# Altium schematic symbol library Electro-Mechanical.SchLib: 24 symbols (part 1 of 2)
Pins are listed as number, name and electrical type; pins without a type are passive.

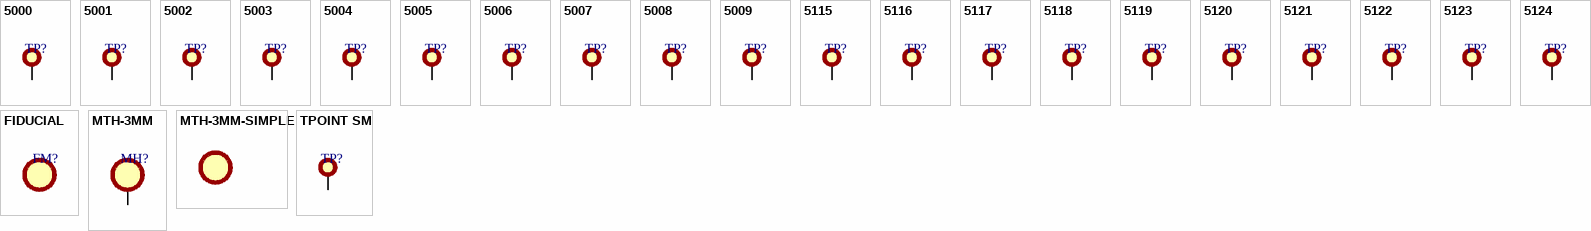
[diagram p0: symbols 5000 to TPOINT SM]

## 5000
designator TP?, comment RED TEST POINT  (value not drawn)
PC TEST POINT MINIATURE RED; Manufacturer: Keystone; Manufacturer Part Number: 5000; Description: Cable Wrap, 1/2 Inch, Polyethylene, Natural, 50 Ft, Spirap Series | TE Connectivity 500002-1; Body Material: Bronze, PBT; Hole Diameter: 1.6mm; Inside Diameter: 1.27mm; Insulation: Insulated; Number of Contacts: 1; Outside Diameter: 2.54mm; Plating: Silver; Supplier: DigiKey; Supplier Part Number: 36-5000-ND; RoHS: Compliant; Category: Test Points; Stock: 235174; Pricing: 1=0.39, 10=0.293, 25=0.2624, 100=0.2223, 500=0.19, 2500=0.16, 5000=0.14312 (USD); Color: Red; Contact Material: Silver; Contact Plating: Silver; Flammability Rating: UL94 V-0; Height: 4.72mm; Housing Color: Red; Lead Free: Lead Free; Length: 7.62mm; Lifecycle Status: Production; Material: Bronze, Nylon, Silver; Mounting Technology: PCB, Through Hole; Number of Ports: 1; Orientation: Straight; Packaging: Bulk; REACH SVHC: Yes; ComponentLink1URL: https://datasheet.octopart.com:443/5000-Keystone-datasheet-138896739.pdf?src-supplier=Upverter; ComponentLink1Description: https://datasheet.octopart.com:443/5000-Keystone-datasheet-138896739.pdf?src-supplier=Upverter; ComponentLink2URL: https://datasheet.octopart.com:443/5000-Keystone-datasheet-15716159.pdf?src-supplier=IHS; ComponentLink2Description: https://datasheet.octopart.com:443/5000-Keystone-datasheet-15716159.pdf?src-supplier=IHS; ComponentLink3URL: https://datasheet.octopart.com:443/5000-Keystone-datasheet-9590016.pdf?src-supplier=Sager+Electronics; ComponentLink3Description: https://datasheet.octopart.com:443/5000-Keystone-datasheet-9590016.pdf?src-supplier=Sager+Electronics; ComponentLink4URL: https://datasheet.octopart.com:443/5000-Keystone-datasheet-23674.pdf?src-supplier=SOS+electronic; ComponentLink4Description: https://datasheet.octopart.com:443/5000-Keystone-datasheet-23674.pdf?src-supplier=SOS+electronic; ComponentLink5URL: https://datasheet.octopart.com:443/5000-Keystone-datasheet-549598.pdf?src-supplier=Farnell; ComponentLink5Description: https://datasheet.octopart.com:443/5000-Keystone-datasheet-549598.pdf?src-supplier=Farnell; ComponentLink6URL: https://datasheet.octopart.com:443/5000-Keystone-datasheet-60278094.pdf?src-supplier=Future+Electronics; ComponentLink6Description: https://datasheet.octopart.com:443/5000-Keystone-datasheet-60278094.pdf?src-supplier=Future+Electronics; ComponentLink7URL: https://datasheet.octopart.com:443/5000-Keystone-datasheet-542585.pdf?src-supplier=Future+Electronics; ComponentLink7Description: https://datasheet.octopart.com:443/5000-Keystone-datasheet-542585.pdf?src-supplier=Future+Electronics; ComponentLink8URL: https://datasheet.octopart.com:443/5000-Keystone-datasheet-10925273.pdf?src-supplier=Factory+Futures; ComponentLink8Description: https://datasheet.octopart.com:443/5000-Keystone-datasheet-10925273.pdf?src-supplier=Factory+Futures; ComponentLink9URL: https://datasheet.octopart.com:443/5000-Keystone-datasheet-15983577.pdf?src-supplier=element14+APAC; ComponentLink9Description: https://datasheet.octopart.com:443/5000-Keystone-datasheet-15983577.pdf?src-supplier=element14+APAC; ComponentLink10URL: https://datasheet.octopart.com:443/5000-Keystone-datasheet-6528.pdf?src-supplier=RS+(Formerly+Allied+Electronics); ComponentLink10Description: https://datasheet.octopart.com:443/5000-Keystone-datasheet-6528.pdf?src-supplier=RS+(Formerly+Allied+Electronics)
footprint TEST_POINT_TH_2P54X4P57MM_RED
pins: 1 TP

## 5001
designator TP?, comment BLACK TEST POINT  (value not drawn)
PC TEST POINT MINIATURE BLACK; Manufacturer: Keystone; Manufacturer Part Number: 5001; Description: Test Point, Mini, Thm, Pc, .300 L, .100 Od, Heat Resistant Nylon 46, Black; Body Material: Bronze, PBT; Hole Diameter: 1.6mm; Inside Diameter: 1.27mm; Insulation: Insulated; Number of Contacts: 1; Outside Diameter: 2.54mm; Plating: Silver; Supplier: DigiKey; Supplier Part Number: 36-5001-ND; RoHS: Compliant; Category: Test Points; Stock: 457736; Pricing: 1=0.26, 10=0.194, 25=0.19, 2500=0.16, 5000=0.14 (USD); China RoHS: Compliant; Color: Black; Contact Material: Silver; Contact Plating: Tin; Diameter: 2.54mm; Flammability Rating: UL94 V-0; Height: 4.72mm; Housing Color: Black; Lead Free: Lead Free; Length: 7.62mm; Lifecycle Status: Production; Material: Bronze, Nylon, Silver; Mounting Technology: PCB, Through Hole; Pins: 1; Number of Ports: 1; Orientation: Straight; Packaging: Bulk; REACH SVHC: Yes; Termination: Through Hole; ComponentLink1URL: https://datasheet.octopart.com:443/5001-Keystone-datasheet-15716159.pdf?src-supplier=IHS; ComponentLink1Description: https://datasheet.octopart.com:443/5001-Keystone-datasheet-15716159.pdf?src-supplier=IHS; ComponentLink2URL: https://datasheet.octopart.com:443/5001-Keystone-datasheet-23674.pdf?src-supplier=Upverter; ComponentLink2Description: https://datasheet.octopart.com:443/5001-Keystone-datasheet-23674.pdf?src-supplier=Upverter; ComponentLink3URL: https://datasheet.octopart.com:443/5001-Keystone-datasheet-60278094.pdf?src-supplier=LKR; ComponentLink3Description: https://datasheet.octopart.com:443/5001-Keystone-datasheet-60278094.pdf?src-supplier=LKR; ComponentLink4URL: https://datasheet.octopart.com:443/5001-Keystone-datasheet-9590016.pdf?src-supplier=Sager+Electronics; ComponentLink4Description: https://datasheet.octopart.com:443/5001-Keystone-datasheet-9590016.pdf?src-supplier=Sager+Electronics; ComponentLink5URL: https://datasheet.octopart.com:443/5001-Keystone-datasheet-15983577.pdf?src-supplier=element14+APAC; ComponentLink5Description: https://datasheet.octopart.com:443/5001-Keystone-datasheet-15983577.pdf?src-supplier=element14+APAC; ComponentLink6URL: https://datasheet.octopart.com:443/5001-Keystone-datasheet-10925273.pdf?src-supplier=RS+(Formerly+Allied+Electronics); ComponentLink6Description: https://datasheet.octopart.com:443/5001-Keystone-datasheet-10925273.pdf?src-supplier=RS+(Formerly+Allied+Electronics); ComponentLink7URL: https://datasheet.octopart.com:443/5001-Keystone-datasheet-6528.pdf?src-supplier=RS+(Formerly+Allied+Electronics); ComponentLink7Description: https://datasheet.octopart.com:443/5001-Keystone-datasheet-6528.pdf?src-supplier=RS+(Formerly+Allied+Electronics); ComponentLink8URL: https://datasheet.octopart.com:443/5001-Keystone-datasheet-14433321.pdf?src-supplier=Factory+Futures; ComponentLink8Description: https://datasheet.octopart.com:443/5001-Keystone-datasheet-14433321.pdf?src-supplier=Factory+Futures; ComponentLink9URL: https://datasheet.octopart.com:443/5001-Keystone-datasheet-549598.pdf?src-supplier=Future+Electronics; ComponentLink9Description: https://datasheet.octopart.com:443/5001-Keystone-datasheet-549598.pdf?src-supplier=Future+Electronics; ComponentLink10URL: https://datasheet.octopart.com:443/5001-Keystone-datasheet-542585.pdf?src-supplier=Future+Electronics; ComponentLink10Description: https://datasheet.octopart.com:443/5001-Keystone-datasheet-542585.pdf?src-supplier=Future+Electronics; ComponentLink11URL: https://datasheet.octopart.com:443/5001-Keystone-datasheet-7268890.pdf?src-supplier=Jameco; ComponentLink11Description: https://datasheet.octopart.com:443/5001-Keystone-datasheet-7268890.pdf?src-supplier=Jameco
footprint TEST_POINT_TH_2P54X4P57MM_BLACK
pins: 1 TP

## 5002
designator TP?, comment WHITE TEST POINT  (value not drawn)
PC TEST POINT MINIATURE WHITE; Manufacturer: Keystone; Manufacturer Part Number: 5002; Description: Test Point, Mini, Thm, Pc, .300 L, .100 Od, Heat Resistant Nylon 46, White; Body Material: Bronze, PBT; Hole Diameter: 1.6mm; Inside Diameter: 1.27mm; Insulation: Insulated; Number of Ports: 1; Outside Diameter: 2.54mm; Plating: Silver; Supplier: DigiKey; Supplier Part Number: 36-5002-ND; RoHS: Compliant; Category: Test Points; Stock: 426813; Pricing: 1=0.39, 10=0.293, 25=0.2624, 100=0.2223, 500=0.19, 2500=0.16, 5000=0.14312 (USD); China RoHS: Compliant; Color: White; Contact Material: Silver; Contact Plating: Tin; Flammability Rating: UL94 V-0; Height: 4.57mm; Housing Color: White; Lead Free: Lead Free; Length: 7.62mm; Lifecycle Status: Production; Material: Bronze, Nylon, Silver; Mounting Technology: PCB, Through Hole; Orientation: Straight; Packaging: Bulk; REACH SVHC: Yes; ComponentLink1URL: https://datasheet.octopart.com:443/5002-Keystone-datasheet-138896739.pdf?src-supplier=Upverter; ComponentLink1Description: https://datasheet.octopart.com:443/5002-Keystone-datasheet-138896739.pdf?src-supplier=Upverter; ComponentLink2URL: https://datasheet.octopart.com:443/5002-Keystone-datasheet-15716159.pdf?src-supplier=IHS; ComponentLink2Description: https://datasheet.octopart.com:443/5002-Keystone-datasheet-15716159.pdf?src-supplier=IHS; ComponentLink3URL: https://datasheet.octopart.com:443/5002-Keystone-datasheet-23674.pdf?src-supplier=element14; ComponentLink3Description: https://datasheet.octopart.com:443/5002-Keystone-datasheet-23674.pdf?src-supplier=element14; ComponentLink4URL: https://datasheet.octopart.com:443/5002-Keystone-datasheet-60278094.pdf?src-supplier=LKR; ComponentLink4Description: https://datasheet.octopart.com:443/5002-Keystone-datasheet-60278094.pdf?src-supplier=LKR; ComponentLink5URL: https://datasheet.octopart.com:443/5002-Keystone-datasheet-9590016.pdf?src-supplier=Sager+Electronics; ComponentLink5Description: https://datasheet.octopart.com:443/5002-Keystone-datasheet-9590016.pdf?src-supplier=Sager+Electronics; ComponentLink6URL: https://datasheet.octopart.com:443/5002-Keystone-datasheet-10925273.pdf?src-supplier=RS+(Formerly+Allied+Electronics); ComponentLink6Description: https://datasheet.octopart.com:443/5002-Keystone-datasheet-10925273.pdf?src-supplier=RS+(Formerly+Allied+Electronics); ComponentLink7URL: https://datasheet.octopart.com:443/5002-Keystone-datasheet-6528.pdf?src-supplier=RS+(Formerly+Allied+Electronics); ComponentLink7Description: https://datasheet.octopart.com:443/5002-Keystone-datasheet-6528.pdf?src-supplier=RS+(Formerly+Allied+Electronics); ComponentLink8URL: https://datasheet.octopart.com:443/5002-Keystone-datasheet-15983577.pdf?src-supplier=element14+APAC; ComponentLink8Description: https://datasheet.octopart.com:443/5002-Keystone-datasheet-15983577.pdf?src-supplier=element14+APAC; ComponentLink9URL: https://datasheet.octopart.com:443/5002-Keystone-datasheet-549598.pdf?src-supplier=Future+Electronics; ComponentLink9Description: https://datasheet.octopart.com:443/5002-Keystone-datasheet-549598.pdf?src-supplier=Future+Electronics; ComponentLink10URL: https://datasheet.octopart.com:443/5002-Keystone-datasheet-542585.pdf?src-supplier=Future+Electronics; ComponentLink10Description: https://datasheet.octopart.com:443/5002-Keystone-datasheet-542585.pdf?src-supplier=Future+Electronics; ComponentLink11URL: https://datasheet.octopart.com:443/5002-Keystone-datasheet-7266429.pdf?src-supplier=Jameco; ComponentLink11Description: https://datasheet.octopart.com:443/5002-Keystone-datasheet-7266429.pdf?src-supplier=Jameco
footprint TEST_POINT_TH_2P54X4P57MM_WHITE
pins: 1 TP

## 5003
designator TP?, comment ORANGE TEST POINT  (value not drawn)
PC TEST POINT MINIATURE ORANGE; Manufacturer: Keystone; Manufacturer Part Number: 5003; Description: KEYSTONE - 5003 - PCB Test Point, Miniature, Orange, Through Hole Mount, 1 mm, Phosphor Bronze; Body Material: PBT; Forward Current: 3A; Forward Voltage: 1.08V; Inside Diameter: 1.27mm; Outside Diameter: 2.54mm; Plating: Silver; Supplier: DigiKey; Supplier Part Number: 36-5003-ND; RoHS: Compliant; Category: Test Points; Stock: 71569; Pricing: 1=0.39, 10=0.293, 25=0.2624, 100=0.2223, 500=0.19, 2500=0.16, 5000=0.14312 (USD); Color: Orange; Contact Material: Silver; Contact Plating: Silver; Diameter: 5.3mm; Flammability Rating: UL94 V-0; Height: 4.72mm; Lead Free: Lead Free; Length: 9.5mm; Lifecycle Status: Production; Material: Bronze, Nylon, Silver; Mounting Technology: Through Hole; Pins: 1; Packaging: Bulk; Radiation Hardening: No; REACH SVHC: Yes; Termination: Through Hole; Weight: 4.535924g; Width: 6.35mm; ComponentLink1URL: https://datasheet.octopart.com:443/5003-Keystone-datasheet-15716159.pdf?src-supplier=IHS; ComponentLink1Description: https://datasheet.octopart.com:443/5003-Keystone-datasheet-15716159.pdf?src-supplier=IHS; ComponentLink2URL: https://datasheet.octopart.com:443/5003-Keystone-datasheet-23674.pdf?src-supplier=element14; ComponentLink2Description: https://datasheet.octopart.com:443/5003-Keystone-datasheet-23674.pdf?src-supplier=element14; ComponentLink3URL: https://datasheet.octopart.com:443/5003-Keystone-datasheet-60278094.pdf?src-supplier=LKR; ComponentLink3Description: https://datasheet.octopart.com:443/5003-Keystone-datasheet-60278094.pdf?src-supplier=LKR; ComponentLink4URL: https://datasheet.octopart.com:443/5003-Keystone-datasheet-9590016.pdf?src-supplier=Sager+Electronics; ComponentLink4Description: https://datasheet.octopart.com:443/5003-Keystone-datasheet-9590016.pdf?src-supplier=Sager+Electronics; ComponentLink5URL: https://datasheet.octopart.com:443/5003-Keystone-datasheet-10925273.pdf?src-supplier=RS+(Formerly+Allied+Electronics); ComponentLink5Description: https://datasheet.octopart.com:443/5003-Keystone-datasheet-10925273.pdf?src-supplier=RS+(Formerly+Allied+Electronics); ComponentLink6URL: https://datasheet.octopart.com:443/5003-Keystone-datasheet-6528.pdf?src-supplier=RS+(Formerly+Allied+Electronics); ComponentLink6Description: https://datasheet.octopart.com:443/5003-Keystone-datasheet-6528.pdf?src-supplier=RS+(Formerly+Allied+Electronics); ComponentLink7URL: https://datasheet.octopart.com:443/5003-Keystone-datasheet-151955057.pdf?src-supplier=SOS+electronic; ComponentLink7Description: https://datasheet.octopart.com:443/5003-Keystone-datasheet-151955057.pdf?src-supplier=SOS+electronic; ComponentLink8URL: https://datasheet.octopart.com:443/5003-Keystone-datasheet-549598.pdf?src-supplier=Future+Electronics; ComponentLink8Description: https://datasheet.octopart.com:443/5003-Keystone-datasheet-549598.pdf?src-supplier=Future+Electronics; ComponentLink9URL: https://datasheet.octopart.com:443/5003-Keystone-datasheet-542585.pdf?src-supplier=Future+Electronics; ComponentLink9Description: https://datasheet.octopart.com:443/5003-Keystone-datasheet-542585.pdf?src-supplier=Future+Electronics
footprint TEST_POINT_TH_2P54X4P57MM_ORANGE
pins: 1 TP

## 5004
designator TP?, comment ORANGE TEST POINT  (value not drawn)
PC TEST POINT MINIATURE YELLOW; Manufacturer: Keystone; Manufacturer Part Number: 5004; Description: KEYSTONE - 5004 - PCB Test Point, Miniature, Yellow, Through Hole Mount, 1 mm, Phosphor Bronze; Body Material: PBT; Inside Diameter: 1.27mm; Number of Contacts: 1; Outside Diameter: 2.54mm; Plating: Silver; Supplier: DigiKey; Supplier Part Number: 36-5004-ND; RoHS: Compliant; Category: Test Points; Stock: 116330; Pricing: 1=0.39, 10=0.293, 25=0.2624, 100=0.2223, 500=0.19, 2500=0.16, 5000=0.14312 (USD); Color: Yellow; Contact Material: Silver; Contact Plating: Silver; Flammability Rating: UL94 V-0; Height: 4.72mm; Housing Color: Yellow; Lead Free: Lead Free; Length: 7.62mm; Lifecycle Status: Production; Material: Bronze, Nylon, Silver; Mounting Technology: PCB, Through Hole; Number of Ports: 1; Orientation: Straight; Packaging: Bulk; REACH SVHC: Yes; ComponentLink1URL: https://datasheet.octopart.com:443/5004-Keystone-datasheet-138896739.pdf?src-supplier=Sager+Electronics; ComponentLink1Description: https://datasheet.octopart.com:443/5004-Keystone-datasheet-138896739.pdf?src-supplier=Sager+Electronics; ComponentLink2URL: https://datasheet.octopart.com:443/5004-Keystone-datasheet-9590016.pdf?src-supplier=Sager+Electronics; ComponentLink2Description: https://datasheet.octopart.com:443/5004-Keystone-datasheet-9590016.pdf?src-supplier=Sager+Electronics; ComponentLink3URL: https://datasheet.octopart.com:443/5004-Keystone-datasheet-15716159.pdf?src-supplier=IHS; ComponentLink3Description: https://datasheet.octopart.com:443/5004-Keystone-datasheet-15716159.pdf?src-supplier=IHS; ComponentLink4URL: https://datasheet.octopart.com:443/5004-Keystone-datasheet-23674.pdf?src-supplier=element14; ComponentLink4Description: https://datasheet.octopart.com:443/5004-Keystone-datasheet-23674.pdf?src-supplier=element14; ComponentLink5URL: https://datasheet.octopart.com:443/5004-Keystone-datasheet-60278094.pdf?src-supplier=Future+Electronics; ComponentLink5Description: https://datasheet.octopart.com:443/5004-Keystone-datasheet-60278094.pdf?src-supplier=Future+Electronics; ComponentLink6URL: https://datasheet.octopart.com:443/5004-Keystone-datasheet-549598.pdf?src-supplier=Future+Electronics; ComponentLink6Description: https://datasheet.octopart.com:443/5004-Keystone-datasheet-549598.pdf?src-supplier=Future+Electronics; ComponentLink7URL: https://datasheet.octopart.com:443/5004-Keystone-datasheet-542585.pdf?src-supplier=Future+Electronics; ComponentLink7Description: https://datasheet.octopart.com:443/5004-Keystone-datasheet-542585.pdf?src-supplier=Future+Electronics; ComponentLink8URL: https://datasheet.octopart.com:443/5004-Keystone-datasheet-10925273.pdf?src-supplier=RS+(Formerly+Allied+Electronics); ComponentLink8Description: https://datasheet.octopart.com:443/5004-Keystone-datasheet-10925273.pdf?src-supplier=RS+(Formerly+Allied+Electronics); ComponentLink9URL: https://datasheet.octopart.com:443/5004-Keystone-datasheet-6528.pdf?src-supplier=RS+(Formerly+Allied+Electronics); ComponentLink9Description: https://datasheet.octopart.com:443/5004-Keystone-datasheet-6528.pdf?src-supplier=RS+(Formerly+Allied+Electronics); ComponentLink10URL: https://datasheet.octopart.com:443/5004-Keystone-datasheet-7273119.pdf?src-supplier=Jameco; ComponentLink10Description: https://datasheet.octopart.com:443/5004-Keystone-datasheet-7273119.pdf?src-supplier=Jameco
footprint TEST_POINT_TH_2P54X4P57MM_YELLOW
pins: 1 TP

## 5005
designator TP?, comment RED TEST POINT  (value not drawn)
PC TEST POINT COMPACT RED; Manufacturer: Keystone; Manufacturer Part Number: 5005; Description: PCB Test Point Red 1/8" Diameter x 0.22"L Silver Plated Nylon Insulated; Body Material: PBT; Hole Diameter: 1.6mm; Inside Diameter: 1.78mm; Number of Contacts: 1; Outside Diameter: 3.18mm; Plating: Silver; Supplier: DigiKey; Supplier Part Number: 36-5005-ND; RoHS: Compliant; Category: Test Points; Stock: 106705; Pricing: 1=0.39, 10=0.293, 25=0.2624, 100=0.2223, 500=0.19, 2500=0.16, 5000=0.14312 (USD); Color: Red; Contact Material: Silver; Contact Plating: Tin; Flammability Rating: UL94 V-0; Height: 5.74mm; Housing Color: Red; Lead Free: Lead Free; Length: 8.89mm; Lifecycle Status: Production; Material: Bronze, Nylon, Silver; Mounting Technology: PCB, Through Hole; Number of Ports: 1; Orientation: Straight; Packaging: Bulk; REACH SVHC: Yes; Termination: Solder; ComponentLink1URL: https://datasheet.octopart.com:443/5005-Keystone-datasheet-138896740.pdf?src-supplier=Sager+Electronics; ComponentLink1Description: https://datasheet.octopart.com:443/5005-Keystone-datasheet-138896740.pdf?src-supplier=Sager+Electronics; ComponentLink2URL: https://datasheet.octopart.com:443/5005-Keystone-datasheet-9590016.pdf?src-supplier=Sager+Electronics; ComponentLink2Description: https://datasheet.octopart.com:443/5005-Keystone-datasheet-9590016.pdf?src-supplier=Sager+Electronics; ComponentLink3URL: https://datasheet.octopart.com:443/5005-Keystone-datasheet-15716159.pdf?src-supplier=IHS; ComponentLink3Description: https://datasheet.octopart.com:443/5005-Keystone-datasheet-15716159.pdf?src-supplier=IHS; ComponentLink4URL: https://datasheet.octopart.com:443/5005-Keystone-datasheet-23674.pdf?src-supplier=element14; ComponentLink4Description: https://datasheet.octopart.com:443/5005-Keystone-datasheet-23674.pdf?src-supplier=element14; ComponentLink5URL: https://datasheet.octopart.com:443/5005-Keystone-datasheet-60278094.pdf?src-supplier=Future+Electronics; ComponentLink5Description: https://datasheet.octopart.com:443/5005-Keystone-datasheet-60278094.pdf?src-supplier=Future+Electronics; ComponentLink6URL: https://datasheet.octopart.com:443/5005-Keystone-datasheet-549598.pdf?src-supplier=Future+Electronics; ComponentLink6Description: https://datasheet.octopart.com:443/5005-Keystone-datasheet-549598.pdf?src-supplier=Future+Electronics; ComponentLink7URL: https://datasheet.octopart.com:443/5005-Keystone-datasheet-527775.pdf?src-supplier=Future+Electronics; ComponentLink7Description: https://datasheet.octopart.com:443/5005-Keystone-datasheet-527775.pdf?src-supplier=Future+Electronics; ComponentLink8URL: https://datasheet.octopart.com:443/5005-Keystone-datasheet-10925273.pdf?src-supplier=RS+(Formerly+Allied+Electronics); ComponentLink8Description: https://datasheet.octopart.com:443/5005-Keystone-datasheet-10925273.pdf?src-supplier=RS+(Formerly+Allied+Electronics); ComponentLink9URL: https://datasheet.octopart.com:443/5005-Keystone-datasheet-6528.pdf?src-supplier=RS+(Formerly+Allied+Electronics); ComponentLink9Description: https://datasheet.octopart.com:443/5005-Keystone-datasheet-6528.pdf?src-supplier=RS+(Formerly+Allied+Electronics)
footprint TEST_POINT_TH_3P18X5P59MM_RED
pins: 1 TP

## 5006
designator TP?, comment BLACK TEST POIN  (value not drawn)
PC TEST POINT COMPACT BLACK; Manufacturer: Keystone; Manufacturer Part Number: 5006; Description: PCB Test Point Black 1/8" Diameter x 0.22"L Silver Plated Nylon Insulated; Body Material: PBT; Hole Diameter: 1.6mm; Inside Diameter: 1.78mm; Number of Contacts: 1; Outside Diameter: 3.18mm; Plating: Silver; Supplier: DigiKey; Supplier Part Number: 36-5006-ND; RoHS: Compliant; Category: Test Points; Stock: 209955; Pricing: 1=0.39, 10=0.293, 25=0.2624, 100=0.2223, 500=0.19, 2500=0.16, 5000=0.14312 (USD); Color: Black; Contact Material: Silver; Contact Plating: Tin; Flammability Rating: UL94 V-0; Height: 5.74mm; Housing Color: Black; Lead Free: Lead Free; Length: 8.89mm; Lifecycle Status: Production; Material: Bronze, Nylon, Silver; Mounting Technology: PCB, Through Hole; Number of Ports: 1; Orientation: Straight; Packaging: Bulk; REACH SVHC: Yes; ComponentLink1URL: https://datasheet.octopart.com:443/5006-Keystone-datasheet-15716159.pdf?src-supplier=IHS; ComponentLink1Description: https://datasheet.octopart.com:443/5006-Keystone-datasheet-15716159.pdf?src-supplier=IHS; ComponentLink2URL: https://datasheet.octopart.com:443/5006-Keystone-datasheet-23674.pdf?src-supplier=element14; ComponentLink2Description: https://datasheet.octopart.com:443/5006-Keystone-datasheet-23674.pdf?src-supplier=element14; ComponentLink3URL: https://datasheet.octopart.com:443/5006-Keystone-datasheet-15687730.pdf?src-supplier=Newark; ComponentLink3Description: https://datasheet.octopart.com:443/5006-Keystone-datasheet-15687730.pdf?src-supplier=Newark; ComponentLink4URL: https://datasheet.octopart.com:443/5006-Keystone-datasheet-9590016.pdf?src-supplier=Sager+Electronics; ComponentLink4Description: https://datasheet.octopart.com:443/5006-Keystone-datasheet-9590016.pdf?src-supplier=Sager+Electronics; ComponentLink5URL: https://datasheet.octopart.com:443/5006-Keystone-datasheet-60278094.pdf?src-supplier=Future+Electronics; ComponentLink5Description: https://datasheet.octopart.com:443/5006-Keystone-datasheet-60278094.pdf?src-supplier=Future+Electronics; ComponentLink6URL: https://datasheet.octopart.com:443/5006-Keystone-datasheet-549598.pdf?src-supplier=Future+Electronics; ComponentLink6Description: https://datasheet.octopart.com:443/5006-Keystone-datasheet-549598.pdf?src-supplier=Future+Electronics; ComponentLink7URL: https://datasheet.octopart.com:443/5006-Keystone-datasheet-527775.pdf?src-supplier=Future+Electronics; ComponentLink7Description: https://datasheet.octopart.com:443/5006-Keystone-datasheet-527775.pdf?src-supplier=Future+Electronics; ComponentLink8URL: https://datasheet.octopart.com:443/5006-Keystone-datasheet-10925273.pdf?src-supplier=Factory+Futures; ComponentLink8Description: https://datasheet.octopart.com:443/5006-Keystone-datasheet-10925273.pdf?src-supplier=Factory+Futures; ComponentLink9URL: https://datasheet.octopart.com:443/5006-Keystone-datasheet-15993228.pdf?src-supplier=Farnell; ComponentLink9Description: https://datasheet.octopart.com:443/5006-Keystone-datasheet-15993228.pdf?src-supplier=Farnell; ComponentLink10URL: https://datasheet.octopart.com:443/5006-Keystone-datasheet-7274295.pdf?src-supplier=Jameco; ComponentLink10Description: https://datasheet.octopart.com:443/5006-Keystone-datasheet-7274295.pdf?src-supplier=Jameco; ComponentLink11URL: https://datasheet.octopart.com:443/5006-Keystone-datasheet-6528.pdf?src-supplier=RS+(Formerly+Allied+Electronics); ComponentLink11Description: https://datasheet.octopart.com:443/5006-Keystone-datasheet-6528.pdf?src-supplier=RS+(Formerly+Allied+Electronics)
footprint TEST_POINT_TH_3P18X5P59MM_BLACK
pins: 1 TP

## 5007
designator TP?, comment WHITE TEST POINT  (value not drawn)
PC TEST POINT COMPACT WHITE; Manufacturer: Keystone; Manufacturer Part Number: 5007; Description: PCB Test Point White 1/8" Diameter x 0.22"L Silver Plated Nylon Insulated; Body Material: Bronze, PBT; Hole Diameter: 1.6mm; Inside Diameter: 1.78mm; Insulation: Insulated; Number of Contacts: 1; Outside Diameter: 3.18mm; Plating: Silver; Supplier: DigiKey; Supplier Part Number: 36-5007-ND; RoHS: Compliant; Category: Test Points; Stock: 78345; Pricing: 1=0.39, 10=0.293, 25=0.2624, 100=0.2223, 500=0.19, 2500=0.16, 5000=0.14312 (USD); Color: White; Contact Material: Bronze; Contact Plating: Tin; Flammability Rating: UL94 V-0; Height: 8.89mm; Housing Color: White; Lead Free: Lead Free; Length: 8.89mm; Lifecycle Status: Production; Material: Bronze, Nylon, Silver; Mounting Technology: PCB, Through Hole; Number of Ports: 1; Orientation: Straight; Packaging: Bulk; REACH SVHC: Yes; ComponentLink1URL: https://datasheet.octopart.com:443/5007-Keystone-datasheet-15716159.pdf?src-supplier=IHS; ComponentLink1Description: https://datasheet.octopart.com:443/5007-Keystone-datasheet-15716159.pdf?src-supplier=IHS; ComponentLink2URL: https://datasheet.octopart.com:443/5007-Keystone-datasheet-23674.pdf?src-supplier=element14; ComponentLink2Description: https://datasheet.octopart.com:443/5007-Keystone-datasheet-23674.pdf?src-supplier=element14; ComponentLink3URL: https://datasheet.octopart.com:443/5007-Keystone-datasheet-60278094.pdf?src-supplier=LKR; ComponentLink3Description: https://datasheet.octopart.com:443/5007-Keystone-datasheet-60278094.pdf?src-supplier=LKR; ComponentLink4URL: https://datasheet.octopart.com:443/5007-Keystone-datasheet-9590016.pdf?src-supplier=Sager+Electronics; ComponentLink4Description: https://datasheet.octopart.com:443/5007-Keystone-datasheet-9590016.pdf?src-supplier=Sager+Electronics; ComponentLink5URL: https://datasheet.octopart.com:443/5007-Keystone-datasheet-10925273.pdf?src-supplier=RS+(Formerly+Allied+Electronics); ComponentLink5Description: https://datasheet.octopart.com:443/5007-Keystone-datasheet-10925273.pdf?src-supplier=RS+(Formerly+Allied+Electronics); ComponentLink6URL: https://datasheet.octopart.com:443/5007-Keystone-datasheet-6528.pdf?src-supplier=RS+(Formerly+Allied+Electronics); ComponentLink6Description: https://datasheet.octopart.com:443/5007-Keystone-datasheet-6528.pdf?src-supplier=RS+(Formerly+Allied+Electronics); ComponentLink7URL: https://datasheet.octopart.com:443/5007-Keystone-datasheet-549598.pdf?src-supplier=Future+Electronics; ComponentLink7Description: https://datasheet.octopart.com:443/5007-Keystone-datasheet-549598.pdf?src-supplier=Future+Electronics; ComponentLink8URL: https://datasheet.octopart.com:443/5007-Keystone-datasheet-527775.pdf?src-supplier=Future+Electronics; ComponentLink8Description: https://datasheet.octopart.com:443/5007-Keystone-datasheet-527775.pdf?src-supplier=Future+Electronics
footprint TEST_POINT_TH_3P18X5P59MM_WHITE
pins: 1 TP

## 5008
designator TP?, comment ORANGE TEST POINT  (value not drawn)
PC TEST POINT COMPACT ORANGE; Manufacturer: Keystone; Manufacturer Part Number: 5008; Description: KEYSTONE - 5008 - PCB Test Point, Compact, Orange, Through Hole Mount, 1.6 mm, Phosphor Bronze; Body Material: PBT; Inside Diameter: 1.78mm; Number of Ports: 1; Outside Diameter: 3.18mm; Plating: Silver; Supplier: DigiKey; Supplier Part Number: 36-5008-ND; RoHS: Compliant; Category: Test Points; Stock: 46591; Pricing: 1=0.39, 10=0.293, 25=0.2624, 100=0.2223, 500=0.19, 2500=0.16, 5000=0.14312 (USD); Color: Orange; Contact Material: Bronze; Contact Plating: Tin; Flammability Rating: UL94 V-0; Height: 8.89mm; Housing Color: Orange; Lead Free: Lead Free; Length: 8.89mm; Lifecycle Status: Production; Material: Bronze, Nylon, Silver; Mounting Technology: PCB, Through Hole; Orientation: Straight; Packaging: Bulk; REACH SVHC: Yes; Termination: Through Hole; ComponentLink1URL: https://datasheet.octopart.com:443/5008-Keystone-datasheet-15716159.pdf?src-supplier=IHS; ComponentLink1Description: https://datasheet.octopart.com:443/5008-Keystone-datasheet-15716159.pdf?src-supplier=IHS; ComponentLink2URL: https://datasheet.octopart.com:443/5008-Keystone-datasheet-23674.pdf?src-supplier=element14; ComponentLink2Description: https://datasheet.octopart.com:443/5008-Keystone-datasheet-23674.pdf?src-supplier=element14; ComponentLink3URL: https://datasheet.octopart.com:443/5008-Keystone-datasheet-9590016.pdf?src-supplier=Sager+Electronics; ComponentLink3Description: https://datasheet.octopart.com:443/5008-Keystone-datasheet-9590016.pdf?src-supplier=Sager+Electronics; ComponentLink4URL: https://datasheet.octopart.com:443/5008-Keystone-datasheet-60278094.pdf?src-supplier=Future+Electronics; ComponentLink4Description: https://datasheet.octopart.com:443/5008-Keystone-datasheet-60278094.pdf?src-supplier=Future+Electronics; ComponentLink5URL: https://datasheet.octopart.com:443/5008-Keystone-datasheet-549598.pdf?src-supplier=Future+Electronics; ComponentLink5Description: https://datasheet.octopart.com:443/5008-Keystone-datasheet-549598.pdf?src-supplier=Future+Electronics; ComponentLink6URL: https://datasheet.octopart.com:443/5008-Keystone-datasheet-527775.pdf?src-supplier=Future+Electronics; ComponentLink6Description: https://datasheet.octopart.com:443/5008-Keystone-datasheet-527775.pdf?src-supplier=Future+Electronics; ComponentLink7URL: https://datasheet.octopart.com:443/5008-Keystone-datasheet-10925273.pdf?src-supplier=RS+(Formerly+Allied+Electronics); ComponentLink7Description: https://datasheet.octopart.com:443/5008-Keystone-datasheet-10925273.pdf?src-supplier=RS+(Formerly+Allied+Electronics); ComponentLink8URL: https://datasheet.octopart.com:443/5008-Keystone-datasheet-6528.pdf?src-supplier=RS+(Formerly+Allied+Electronics); ComponentLink8Description: https://datasheet.octopart.com:443/5008-Keystone-datasheet-6528.pdf?src-supplier=RS+(Formerly+Allied+Electronics)
footprint TEST_POINT_TH_3P18X5P59MM_ORANGE
pins: 1 TP

## 5009
designator TP?, comment YELLOW TEST POIN  (value not drawn)
PC TEST POINT COMPACT YELLOW; Manufacturer: Keystone; Manufacturer Part Number: 5009; Description: KEYSTONE - 5009 - PCB Test Point, Compact, Yellow, Through Hole Mount, 1.6 mm, Phosphor Bronze; Body Material: PBT; Inside Diameter: 1.78mm; Number of Ports: 1; Outside Diameter: 3.18mm; Plating: Silver; Supplier: DigiKey; Supplier Part Number: 36-5009-ND; RoHS: Compliant; Category: Test Points; Stock: 133507; Pricing: 1=0.39, 10=0.293, 25=0.2624, 100=0.2223, 500=0.19, 2500=0.16, 5000=0.14312 (USD); Color: Yellow; Contact Material: Bronze; Contact Plating: Tin; Flammability Rating: UL94 V-0; Housing Color: Yellow; Lead Free: Lead Free; Length: 8.89mm; Lifecycle Status: Production; Material: Bronze, Nylon, Silver; Mounting Technology: PCB, Through Hole; Orientation: Straight; Packaging: Bulk; REACH SVHC: Yes; Termination: Through Hole; ComponentLink1URL: https://datasheet.octopart.com:443/5009-Keystone-datasheet-15716159.pdf?src-supplier=IHS; ComponentLink1Description: https://datasheet.octopart.com:443/5009-Keystone-datasheet-15716159.pdf?src-supplier=IHS; ComponentLink2URL: https://datasheet.octopart.com:443/5009-Keystone-datasheet-23674.pdf?src-supplier=element14; ComponentLink2Description: https://datasheet.octopart.com:443/5009-Keystone-datasheet-23674.pdf?src-supplier=element14; ComponentLink3URL: https://datasheet.octopart.com:443/5009-Keystone-datasheet-60278094.pdf?src-supplier=LKR; ComponentLink3Description: https://datasheet.octopart.com:443/5009-Keystone-datasheet-60278094.pdf?src-supplier=LKR; ComponentLink4URL: https://datasheet.octopart.com:443/5009-Keystone-datasheet-9590016.pdf?src-supplier=Sager+Electronics; ComponentLink4Description: https://datasheet.octopart.com:443/5009-Keystone-datasheet-9590016.pdf?src-supplier=Sager+Electronics; ComponentLink5URL: https://datasheet.octopart.com:443/5009-Keystone-datasheet-10925273.pdf?src-supplier=RS+(Formerly+Allied+Electronics); ComponentLink5Description: https://datasheet.octopart.com:443/5009-Keystone-datasheet-10925273.pdf?src-supplier=RS+(Formerly+Allied+Electronics); ComponentLink6URL: https://datasheet.octopart.com:443/5009-Keystone-datasheet-6528.pdf?src-supplier=RS+(Formerly+Allied+Electronics); ComponentLink6Description: https://datasheet.octopart.com:443/5009-Keystone-datasheet-6528.pdf?src-supplier=RS+(Formerly+Allied+Electronics); ComponentLink7URL: https://datasheet.octopart.com:443/5009-Keystone-datasheet-549598.pdf?src-supplier=Future+Electronics; ComponentLink7Description: https://datasheet.octopart.com:443/5009-Keystone-datasheet-549598.pdf?src-supplier=Future+Electronics
footprint TEST_POINT_TH_3P18X5P59MM_YELLOW
pins: 1 TP

## 5115
designator TP?, comment BROWN TEST POINT  (value not drawn)
PC TEST POINT MINIATURE BROWN; Manufacturer: Keystone; Manufacturer Part Number: 5115; Description: Brown PC Test Point, Miniature Phosphor Bronze, Silver Plating 0.040 (1.02mm)"; Body Material: PBT; Supplier: DigiKey; Supplier Part Number: 36-5115-ND; RoHS: Compliant; Category: Test Points; Stock: 13848; Pricing: 1=0.39, 10=0.293, 25=0.2624, 100=0.2223, 500=0.19, 2500=0.16, 5000=0.14312 (USD); Color: Brown; Contact Material: Bronze; Contact Plating: Silver; Flammability Rating: UL94 V-0; Height: 7.62mm; Lifecycle Status: Production; Material: Bronze, Nylon; Mounting Technology: PCB, Through Hole; Packaging: Bulk; REACH SVHC: Yes; ComponentLink1URL: https://datasheet.octopart.com:443/5115-Keystone-datasheet-48895008.pdf?src-supplier=IHS; ComponentLink1Description: https://datasheet.octopart.com:443/5115-Keystone-datasheet-48895008.pdf?src-supplier=IHS; ComponentLink2URL: https://datasheet.octopart.com:443/5115-Keystone-datasheet-15716159.pdf?src-supplier=Newark; ComponentLink2Description: https://datasheet.octopart.com:443/5115-Keystone-datasheet-15716159.pdf?src-supplier=Newark; ComponentLink3URL: https://datasheet.octopart.com:443/5115-Keystone-datasheet-60278094.pdf?src-supplier=Future+Electronics; ComponentLink3Description: https://datasheet.octopart.com:443/5115-Keystone-datasheet-60278094.pdf?src-supplier=Future+Electronics; ComponentLink4URL: https://datasheet.octopart.com:443/5115-Keystone-datasheet-10925273.pdf?src-supplier=RS+(Formerly+Allied+Electronics); ComponentLink4Description: https://datasheet.octopart.com:443/5115-Keystone-datasheet-10925273.pdf?src-supplier=RS+(Formerly+Allied+Electronics); ComponentLink5URL: https://datasheet.octopart.com:443/5115-Keystone-datasheet-9590016.pdf?src-supplier=RS+(Formerly+Allied+Electronics); ComponentLink5Description: https://datasheet.octopart.com:443/5115-Keystone-datasheet-9590016.pdf?src-supplier=RS+(Formerly+Allied+Electronics)
footprint TEST_POINT_TH_2P54X4P57MM_BROWN
pins: 1 TP

## 5116
designator TP?, comment GREEN TEST POINT  (value not drawn)
PC TEST POINT MINIATURE GREEN; Manufacturer: Keystone; Manufacturer Part Number: 5116; Description: Test Point, Mini, Thm, Pc, .300 L, .100 Od, Heat Resistant Nylon 46, Green; Body Material: PBT; Supplier: DigiKey; Supplier Part Number: 36-5116-ND; RoHS: Compliant; Category: Test Points; Stock: 29467; Pricing: 1=0.39, 10=0.293, 25=0.2624, 100=0.2223, 500=0.19, 2500=0.16, 5000=0.14312 (USD); Color: Black, Green; Contact Material: Bronze; Contact Plating: Silver; Flammability Rating: UL94 V-0; Height: 7.62mm; Lead Free: Lead Free; Lifecycle Status: Production; Material: Bronze, Nylon; Mounting Technology: PCB, Through Hole; Pins: 1; REACH SVHC: Yes; ComponentLink1URL: https://datasheet.octopart.com:443/5116-Keystone-datasheet-48895008.pdf?src-supplier=IHS; ComponentLink1Description: https://datasheet.octopart.com:443/5116-Keystone-datasheet-48895008.pdf?src-supplier=IHS; ComponentLink2URL: https://datasheet.octopart.com:443/5116-Keystone-datasheet-15716159.pdf?src-supplier=Newark; ComponentLink2Description: https://datasheet.octopart.com:443/5116-Keystone-datasheet-15716159.pdf?src-supplier=Newark; ComponentLink3URL: https://datasheet.octopart.com:443/5116-Keystone-datasheet-60278094.pdf?src-supplier=Future+Electronics; ComponentLink3Description: https://datasheet.octopart.com:443/5116-Keystone-datasheet-60278094.pdf?src-supplier=Future+Electronics; ComponentLink4URL: https://datasheet.octopart.com:443/5116-Keystone-datasheet-157330.pdf?src-supplier=Future+Electronics; ComponentLink4Description: https://datasheet.octopart.com:443/5116-Keystone-datasheet-157330.pdf?src-supplier=Future+Electronics; ComponentLink5URL: https://datasheet.octopart.com:443/5116-Keystone-datasheet-9590016.pdf?src-supplier=Sager+Electronics; ComponentLink5Description: https://datasheet.octopart.com:443/5116-Keystone-datasheet-9590016.pdf?src-supplier=Sager+Electronics; ComponentLink6URL: https://datasheet.octopart.com:443/5116-Keystone-datasheet-10925273.pdf?src-supplier=RS+(Formerly+Allied+Electronics); ComponentLink6Description: https://datasheet.octopart.com:443/5116-Keystone-datasheet-10925273.pdf?src-supplier=RS+(Formerly+Allied+Electronics)
footprint TEST_POINT_TH_2P54X4P57MM_GREEN
pins: 1 TP

## 5117
designator TP?, comment BLUE TEST POINT  (value not drawn)
PC TEST POINT MINIATURE BLUE; Manufacturer: Keystone; Manufacturer Part Number: 5117; Description: Test Point, Mini, Thm, Pc, .300 L, .100 Od, Heat Resistant Nylon 46, Blue; Body Material: PBT; Supplier: DigiKey; Supplier Part Number: 36-5117-ND; RoHS: Compliant; Category: Test Points; Stock: 151086; Pricing: 1=0.39, 10=0.293, 25=0.2624, 100=0.2223, 500=0.19, 2500=0.16, 5000=0.14312 (USD); Color: Blue; Contact Material: Bronze; Contact Plating: Silver; Flammability Rating: UL94 V-0; Height: 7.62mm; Lead Free: Lead Free; Lifecycle Status: Production; Material: Bronze, Nylon; Mounting Technology: PCB, Through Hole; Pins: 1; Packaging: Bulk; REACH SVHC: Yes; ComponentLink1URL: https://datasheet.octopart.com:443/5117-Keystone-datasheet-48895008.pdf?src-supplier=IHS; ComponentLink1Description: https://datasheet.octopart.com:443/5117-Keystone-datasheet-48895008.pdf?src-supplier=IHS; ComponentLink2URL: https://datasheet.octopart.com:443/5117-Keystone-datasheet-15716159.pdf?src-supplier=Newark; ComponentLink2Description: https://datasheet.octopart.com:443/5117-Keystone-datasheet-15716159.pdf?src-supplier=Newark; ComponentLink3URL: https://datasheet.octopart.com:443/5117-Keystone-datasheet-60278094.pdf?src-supplier=RS+(Formerly+Allied+Electronics); ComponentLink3Description: https://datasheet.octopart.com:443/5117-Keystone-datasheet-60278094.pdf?src-supplier=RS+(Formerly+Allied+Electronics); ComponentLink4URL: https://datasheet.octopart.com:443/5117-Keystone-datasheet-10925273.pdf?src-supplier=RS+(Formerly+Allied+Electronics); ComponentLink4Description: https://datasheet.octopart.com:443/5117-Keystone-datasheet-10925273.pdf?src-supplier=RS+(Formerly+Allied+Electronics); ComponentLink5URL: https://datasheet.octopart.com:443/5117-Keystone-datasheet-9590016.pdf?src-supplier=RS+(Formerly+Allied+Electronics); ComponentLink5Description: https://datasheet.octopart.com:443/5117-Keystone-datasheet-9590016.pdf?src-supplier=RS+(Formerly+Allied+Electronics)
footprint TEST_POINT_TH_2P54X4P57MM_BLUE
pins: 1 TP

## 5118
designator TP?, comment GREY TEST POINT  (value not drawn)
PC TEST POINT MINIATURE GREY; Manufacturer: Keystone; Manufacturer Part Number: 5118; Description: Test Point; Mini; THM; PC; .300 L; .100OD; Heat Resistant Nylon 46; Grey; Body Material: PBT; Supplier: DigiKey; Supplier Part Number: 36-5118-ND; RoHS: Compliant; Category: Test Points; Stock: 15144; Pricing: 1=0.39, 10=0.293, 25=0.2624, 100=0.2223, 500=0.19, 2500=0.16, 5000=0.14312 (USD); Color: Grey; Contact Material: Bronze; Contact Plating: Silver; Flammability Rating: UL94 V-0; Height: 7.62mm; Lifecycle Status: Production; Material: Bronze, Nylon; Mounting Technology: PCB, Through Hole; Packaging: Bulk; REACH SVHC: Yes; ComponentLink1URL: https://datasheet.octopart.com:443/5118-Keystone-datasheet-48895008.pdf?src-supplier=IHS; ComponentLink1Description: https://datasheet.octopart.com:443/5118-Keystone-datasheet-48895008.pdf?src-supplier=IHS; ComponentLink2URL: https://datasheet.octopart.com:443/5118-Keystone-datasheet-15716159.pdf?src-supplier=Newark; ComponentLink2Description: https://datasheet.octopart.com:443/5118-Keystone-datasheet-15716159.pdf?src-supplier=Newark; ComponentLink3URL: https://datasheet.octopart.com:443/5118-Keystone-datasheet-60278094.pdf?src-supplier=Future+Electronics; ComponentLink3Description: https://datasheet.octopart.com:443/5118-Keystone-datasheet-60278094.pdf?src-supplier=Future+Electronics; ComponentLink4URL: https://datasheet.octopart.com:443/5118-Keystone-datasheet-9590016.pdf?src-supplier=Sager+Electronics; ComponentLink4Description: https://datasheet.octopart.com:443/5118-Keystone-datasheet-9590016.pdf?src-supplier=Sager+Electronics; ComponentLink5URL: https://datasheet.octopart.com:443/5118-Keystone-datasheet-10925273.pdf?src-supplier=RS+(Formerly+Allied+Electronics); ComponentLink5Description: https://datasheet.octopart.com:443/5118-Keystone-datasheet-10925273.pdf?src-supplier=RS+(Formerly+Allied+Electronics)
footprint TEST_POINT_TH_2P54X4P57MM_GREY
pins: 1 TP

## 5119
designator TP?, comment PURPLE TEST POINT  (value not drawn)
PC TEST POINT MINIATURE PURPLE; Manufacturer: Keystone; Manufacturer Part Number: 5119; Description: Test Point; Mini; Thm; Pc; .300 L; .100 Od; Heat Resistant Nylon 46; Purple; Body Material: PBT; Supplier: DigiKey; Supplier Part Number: 36-5119-ND; RoHS: Compliant; Category: Test Points; Stock: 15881; Pricing: 1=0.39, 10=0.293, 25=0.2624, 100=0.2223, 500=0.19, 2500=0.16, 5000=0.14312 (USD); Color: Violet; Contact Material: Bronze; Contact Plating: Silver; Flammability Rating: UL94 V-0; Height: 7.62mm; Lead Free: Lead Free; Lifecycle Status: Production; Material: Bronze, Nylon; Mounting Technology: PCB, Through Hole; Packaging: Bulk; REACH SVHC: Yes; ComponentLink1URL: https://datasheet.octopart.com:443/5119-Keystone-datasheet-48895008.pdf?src-supplier=IHS; ComponentLink1Description: https://datasheet.octopart.com:443/5119-Keystone-datasheet-48895008.pdf?src-supplier=IHS; ComponentLink2URL: https://datasheet.octopart.com:443/5119-Keystone-datasheet-15716159.pdf?src-supplier=Newark; ComponentLink2Description: https://datasheet.octopart.com:443/5119-Keystone-datasheet-15716159.pdf?src-supplier=Newark; ComponentLink3URL: https://datasheet.octopart.com:443/5119-Keystone-datasheet-60278094.pdf?src-supplier=Future+Electronics; ComponentLink3Description: https://datasheet.octopart.com:443/5119-Keystone-datasheet-60278094.pdf?src-supplier=Future+Electronics; ComponentLink4URL: https://datasheet.octopart.com:443/5119-Keystone-datasheet-10925273.pdf?src-supplier=RS+(Formerly+Allied+Electronics); ComponentLink4Description: https://datasheet.octopart.com:443/5119-Keystone-datasheet-10925273.pdf?src-supplier=RS+(Formerly+Allied+Electronics); ComponentLink5URL: https://datasheet.octopart.com:443/5119-Keystone-datasheet-9590016.pdf?src-supplier=RS+(Formerly+Allied+Electronics); ComponentLink5Description: https://datasheet.octopart.com:443/5119-Keystone-datasheet-9590016.pdf?src-supplier=RS+(Formerly+Allied+Electronics)
footprint TEST_POINT_TH_2P54X4P57MM_PURPLE
pins: 1 TP

## 5120
designator TP?, comment BROWN TEST POINT  (value not drawn)
PC TEST POINT COMPACT BROWN; Manufacturer: Keystone; Manufacturer Part Number: 5120; Description: Test Point; Compact; Thm; Pc; .350 L; .125 Od; Heat Resistant Nylon 46; Brown; Body Material: PBT; Supplier: DigiKey; Supplier Part Number: 36-5120-ND; RoHS: Compliant; Category: Test Points; Stock: 15050; Pricing: 1=0.39, 10=0.293, 25=0.2624, 100=0.2223, 500=0.19, 2500=0.16, 5000=0.14312 (USD); Color: Brown; Contact Material: Bronze; Contact Plating: Silver; Flammability Rating: UL94 V-0; Height: 8.89mm; Lifecycle Status: Production; Material: Bronze, Nylon; Max Operating Temperature: 85°C; Min Operating Temperature: -45°C; Mounting Technology: PCB, Through Hole; Packaging: Bulk; REACH SVHC: Yes; ComponentLink1URL: https://datasheet.octopart.com:443/5120-Keystone-datasheet-47124280.pdf?src-supplier=IHS; ComponentLink1Description: https://datasheet.octopart.com:443/5120-Keystone-datasheet-47124280.pdf?src-supplier=IHS; ComponentLink2URL: https://datasheet.octopart.com:443/5120-Keystone-datasheet-15716159.pdf?src-supplier=Newark; ComponentLink2Description: https://datasheet.octopart.com:443/5120-Keystone-datasheet-15716159.pdf?src-supplier=Newark; ComponentLink3URL: https://datasheet.octopart.com:443/5120-Keystone-datasheet-60278094.pdf?src-supplier=RS+(Formerly+Allied+Electronics); ComponentLink3Description: https://datasheet.octopart.com:443/5120-Keystone-datasheet-60278094.pdf?src-supplier=RS+(Formerly+Allied+Electronics); ComponentLink4URL: https://datasheet.octopart.com:443/5120-Keystone-datasheet-10925273.pdf?src-supplier=RS+(Formerly+Allied+Electronics); ComponentLink4Description: https://datasheet.octopart.com:443/5120-Keystone-datasheet-10925273.pdf?src-supplier=RS+(Formerly+Allied+Electronics); ComponentLink5URL: https://datasheet.octopart.com:443/5120-Keystone-datasheet-9590016.pdf?src-supplier=RS+(Formerly+Allied+Electronics); ComponentLink5Description: https://datasheet.octopart.com:443/5120-Keystone-datasheet-9590016.pdf?src-supplier=RS+(Formerly+Allied+Electronics)
footprint TEST_POINT_TH_3P18X5P59MM_BROWN
pins: 1 TP

## 5121
designator TP?, comment GREEN TEST POINT  (value not drawn)
PC TEST POINT COMPACT GREEN; Manufacturer: Keystone; Manufacturer Part Number: 5121; Description: Test Point; Compact; THM; PC; .350 L; .125 OD; Heat Resistant Nylon 46; Green; Body Material: PBT; Supplier: DigiKey; Supplier Part Number: 36-5121-ND; RoHS: Compliant; Category: Test Points; Stock: 21075; Pricing: 1=0.39, 10=0.293, 25=0.2624, 100=0.2223, 500=0.19, 2500=0.16, 5000=0.14312 (USD); Color: Green; Contact Material: Bronze; Contact Plating: Silver; Flammability Rating: UL94 V-0; Height: 8.89mm; Lead Free: Lead Free; Lifecycle Status: Production; Material: Bronze, Nylon; Max Operating Temperature: 85°C; Min Operating Temperature: -45°C; Mounting Technology: PCB, Through Hole; Packaging: Bulk; REACH SVHC: Yes; ComponentLink1URL: https://datasheet.octopart.com:443/5121-Keystone-datasheet-47124280.pdf?src-supplier=IHS; ComponentLink1Description: https://datasheet.octopart.com:443/5121-Keystone-datasheet-47124280.pdf?src-supplier=IHS; ComponentLink2URL: https://datasheet.octopart.com:443/5121-Keystone-datasheet-15716159.pdf?src-supplier=Newark; ComponentLink2Description: https://datasheet.octopart.com:443/5121-Keystone-datasheet-15716159.pdf?src-supplier=Newark; ComponentLink3URL: https://datasheet.octopart.com:443/5121-Keystone-datasheet-60278094.pdf?src-supplier=Future+Electronics; ComponentLink3Description: https://datasheet.octopart.com:443/5121-Keystone-datasheet-60278094.pdf?src-supplier=Future+Electronics; ComponentLink4URL: https://datasheet.octopart.com:443/5121-Keystone-datasheet-157330.pdf?src-supplier=Future+Electronics; ComponentLink4Description: https://datasheet.octopart.com:443/5121-Keystone-datasheet-157330.pdf?src-supplier=Future+Electronics; ComponentLink5URL: https://datasheet.octopart.com:443/5121-Keystone-datasheet-10925273.pdf?src-supplier=RS+(Formerly+Allied+Electronics); ComponentLink5Description: https://datasheet.octopart.com:443/5121-Keystone-datasheet-10925273.pdf?src-supplier=RS+(Formerly+Allied+Electronics); ComponentLink6URL: https://datasheet.octopart.com:443/5121-Keystone-datasheet-9590016.pdf?src-supplier=RS+(Formerly+Allied+Electronics); ComponentLink6Description: https://datasheet.octopart.com:443/5121-Keystone-datasheet-9590016.pdf?src-supplier=RS+(Formerly+Allied+Electronics)
footprint TEST_POINT_TH_3P18X5P59MM_GREEN
pins: 1 TP